# Altium schematic symbol library Cap.Schlib: 8 symbols
Pins are listed as number, name and electrical type; pins without a type are passive.

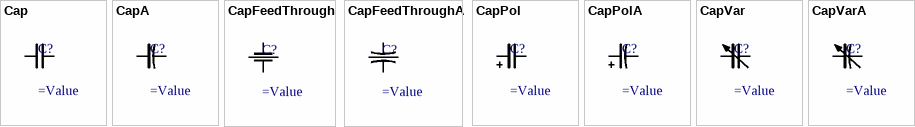
[diagram p0: symbols Cap to CapVarA]

## Cap
designator C?
Ceramic capacitor
footprint 0603_CAP
pins: 1, 2

## CapA
designator C?
Ceramic capacitor
pins: 1, 2

## CapFeedThrough
designator C?
Ceramic capacitor
pins: 1, 2, 3, 4

## CapFeedThroughA
designator C?
Ceramic capacitor
pins: 1, 2, 3, 4

## CapPol
designator C?
Ceramic capacitor
pins: 1, 2

## CapPolA
designator C?
Ceramic capacitor
pins: 1, 2

## CapVar
designator C?
Ceramic capacitor
pins: 1, 2

## CapVarA
designator C?
Ceramic capacitor
pins: 1, 2